# EAGLE library part ADAFRUIT_INA219_DEVICE (library Adafruit_INA219)
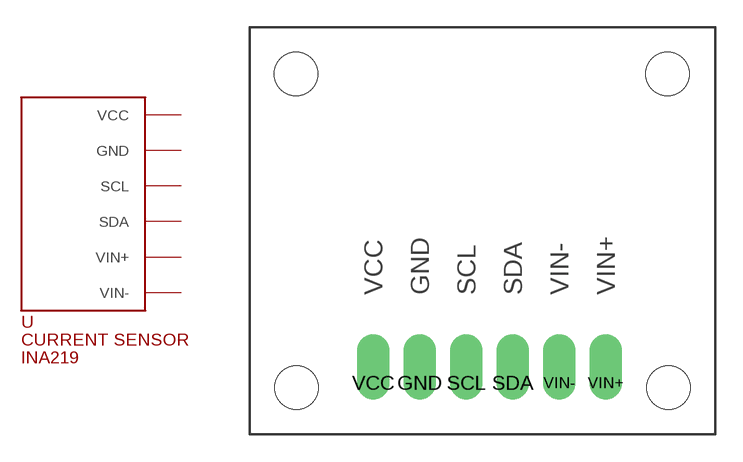
[diagram p0: symbol with the pads of C1_ADAFRUIT_INA219_CURPOWERMONITOR; footprint C1_ADAFRUIT_INA219_CURPOWERMONITOR]

Designator prefix -

## ADAFRUIT_INA219_DEVICE  [C1_ADAFRUIT_INA219_CURPOWERMONITOR]
GND  GND
SCL  SCL
SDA  SDA
VCC  VCC
VIN+  VIN+
VIN-  VIN-

## Footprint C1_ADAFRUIT_INA219_CURPOWERMONITOR (pad centres in mm)
Package generated by make-group2pac.ulp from: C:/Users/Allan/Desktop/Adafruit-INA219-Current-Sensor-PCB-master/Adafruit_INA219_CurPowerMonitor.brd at: 23/08/2016 1:59 PM
drill 1 pad 1.778 offset: GND 9.271,2.794; SCL 11.811,2.794; SDA 14.351,2.794; VCC 6.731,2.794; VIN+ 19.431,2.794; VIN- 16.891,2.794
hole 2.381 at 2.54,2.54
hole 2.381 at 22.86,2.54
hole 2.381 at 2.515,19.698
hole 2.381 at 22.809,19.698